# Altium schematic symbol library 红外解码.SchLib: 1 symbol
Pins are listed as number, name and electrical type; pins without a type are passive.

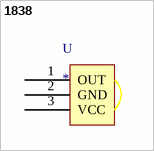
[diagram p0: symbol 1838]

## 1838
designator U
pins: 1 OUT, 2 GND, 3 VCC